# Altium schematic symbol library Common.SchLib: 24 symbols
Pins are listed as number, name and electrical type; pins without a type are passive.

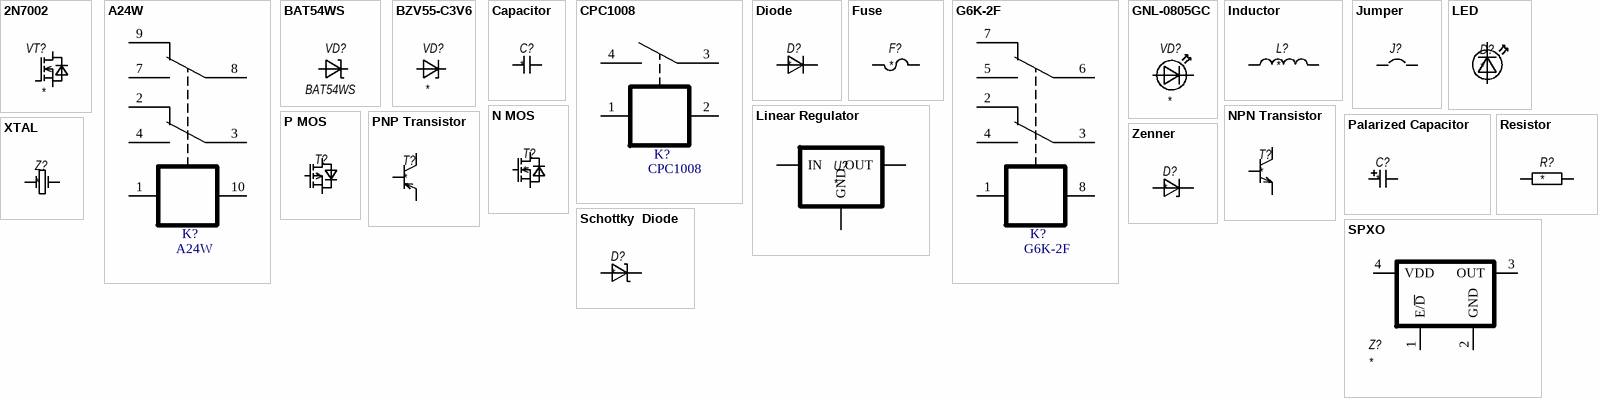
[diagram p0: symbols 2N7002 to Zenner]

## 2N7002
designator VT?
N-MOS 60V 2.8(5)Om 300mA
footprint SOT23 (SOT23, 3-Leads, Body 2.9x1.3mm, Pitch 0.95mm, Lead Span 2.5mm)
pins: 1 G, 2 S, 3 D

## A24W
designator K?
Relay 24V 3A
footprint DIP10
pins: 1, 2, 3, 4, 7, 8, 9, 10

## BAT54WS
designator VD?
SOD323 Shottky 30V 0.2A
footprint SOD323
pins: 1 A, 2 K

## BZV55-C3V6
designator VD?
SOD80C 3.3V 250mA
footprint SOD80C
pins: 1 A, 2 K

## Capacitor
designator C?
Value: *
footprint CAP_0805 (SMD Capacitor 0805)
footprint CAP_1206 (SMD Capacitor 1206)
footprint CAP_0603
pins: 1, 2

## CPC1008
designator K?
SSRelay
footprint SOIC4 (SOIC, 8-Leads, Body 4.9x3.9mm, Pitch 1.27mm, IPC Medium Density)
pins: 1, 2, 3, 4

## Diode
designator D?
Value: *
footprint DO-214; pin to pad A>1 K>2
footprint SOD80 (SOD80 package); pin to pad A>1 K>2
pins: A, K

## Fuse
designator F?
Value: *
footprint Micro2 Fuse holder
pins: 1, 2

## G6K-2F
designator K?
Relay 24V 3A
footprint DIP10
pins: 1, 2, 3, 4, 5, 6, 7, 8

## GNL-0805GC
designator VD?
LED Green 10mA 2.0V 567nm
footprint SMD_0805
pins: 1 A, 2 K

## Inductor
designator L?
Value: *
footprint SOT23 (SOT23, 3-Leads, Body 2.90x2.30mm, Pitch 0.95mm, IPC Medium Density)
footprint IND_1210
footprint IND_0805 (Molded Inductor, 2-Leads, Body 2.60x2.00mm, IPC Medium Density)
footprint IND_7x7x3 (Precision Wire Wound Inductor, 2-Leads, Body 7.00x7.00mm, IPC Medium Density)
footprint IND_12x12x8
pins: 1, 2

## Jumper
designator J?  (value not drawn)
footprint JMP_0603 (Jumper)
footprint JMP_0805 (Jumper)
footprint JMP_1206 (Jumper 1206)
footprint Header 2
pins: 1, 2

## LED
designator D?
Value: *
footprint LED_0805; pin to pad A>2 K>1
pins: A, K

## Linear Regulator
designator U?
Pin map for LD33. CHECK FOR OTHER!!!
footprint SOT223; pin to pad GND>1 IN>3 OUT>2 OUT2>4
footprint TO220; pin to pad GND>1 IN>3 OUT>2
pins: GND, IN, OUT, OUT2

## N MOS
designator T?
Value: *
pins: D, G, S

## NPN Transistor
designator T?
Value: *
pins: B, E, K

## P MOS
designator T?
Value: *
pins: D, G, S

## Palarized Capacitor
designator C?
Value: *
footprint CAP_A (SMD Tantalium size A)
footprint CAP_B (SMD Tantalium size B)
footprint CAP_C (SMD Tantalium size C)
footprint CAP_08x12x04 (Capacitor)
footprint CAP_10x13x5 (Capacitor)
footprint CAP_10x13x5_Hor (Capacitor)
footprint CAP_06x11x03 (Capacitor)
pins: 1, 2

## PNP Transistor
designator T?
Value: *
pins: B, E, K

## Resistor
designator R?
Value: *
footprint RES_0603 (SMD Resistor 0603)
footprint RES_0805 (SMD Resistor 0805)
footprint RES_1206 (SMD Resistor 1206)
footprint RES_2512 (SMD Resistor 2512)
footprint RES_1210
pins: 1, 2

## Schottky  Diode
designator D?
Value: *
footprint DO-214; pin to pad A>1 K>2
footprint SOD80 (SOD80 package); pin to pad A>1 K>2
pins: A, K

## SPXO
designator Z?
Value: *
footprint SPXO_3225
pins: 1 E/~{D}, 2 GND, 3 OUT, 4 VDD

## XTAL
designator Z?
Value: *
footprint XTAL (Through hole crystal oscillator)
pins: 1, 2

## Zenner
designator D?
Value: *
footprint DO-214; pin to pad A>1 K>2
footprint SOD80 (SOD80 package); pin to pad A>1 K>2
pins: A, K